# Altium schematic symbol library LED-RGB-5050_6P.SchLib: 1 symbol
Pins are listed as number, name and electrical type; pins without a type are passive.

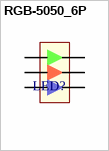
[diagram p0: symbol RGB-5050_6P]

## RGB-5050_6P
designator LED?
pins: 1 A, 2 K, 3 A, 4 K, 5 A, 6 K